# Altium footprint library CAMERA_PcbLib.PcbLib: 27 footprints (part 2 of 2)
Each footprint in its own frame and in the unit in brackets; x right, y up, seen from the top. Pads: shape width x height; smd on the part's side, far side on the other; paste and mask are expansions set on the pad; w line width, h text height; cw(c..) or ccw(c..) is an arc to the next point about the centre after c.
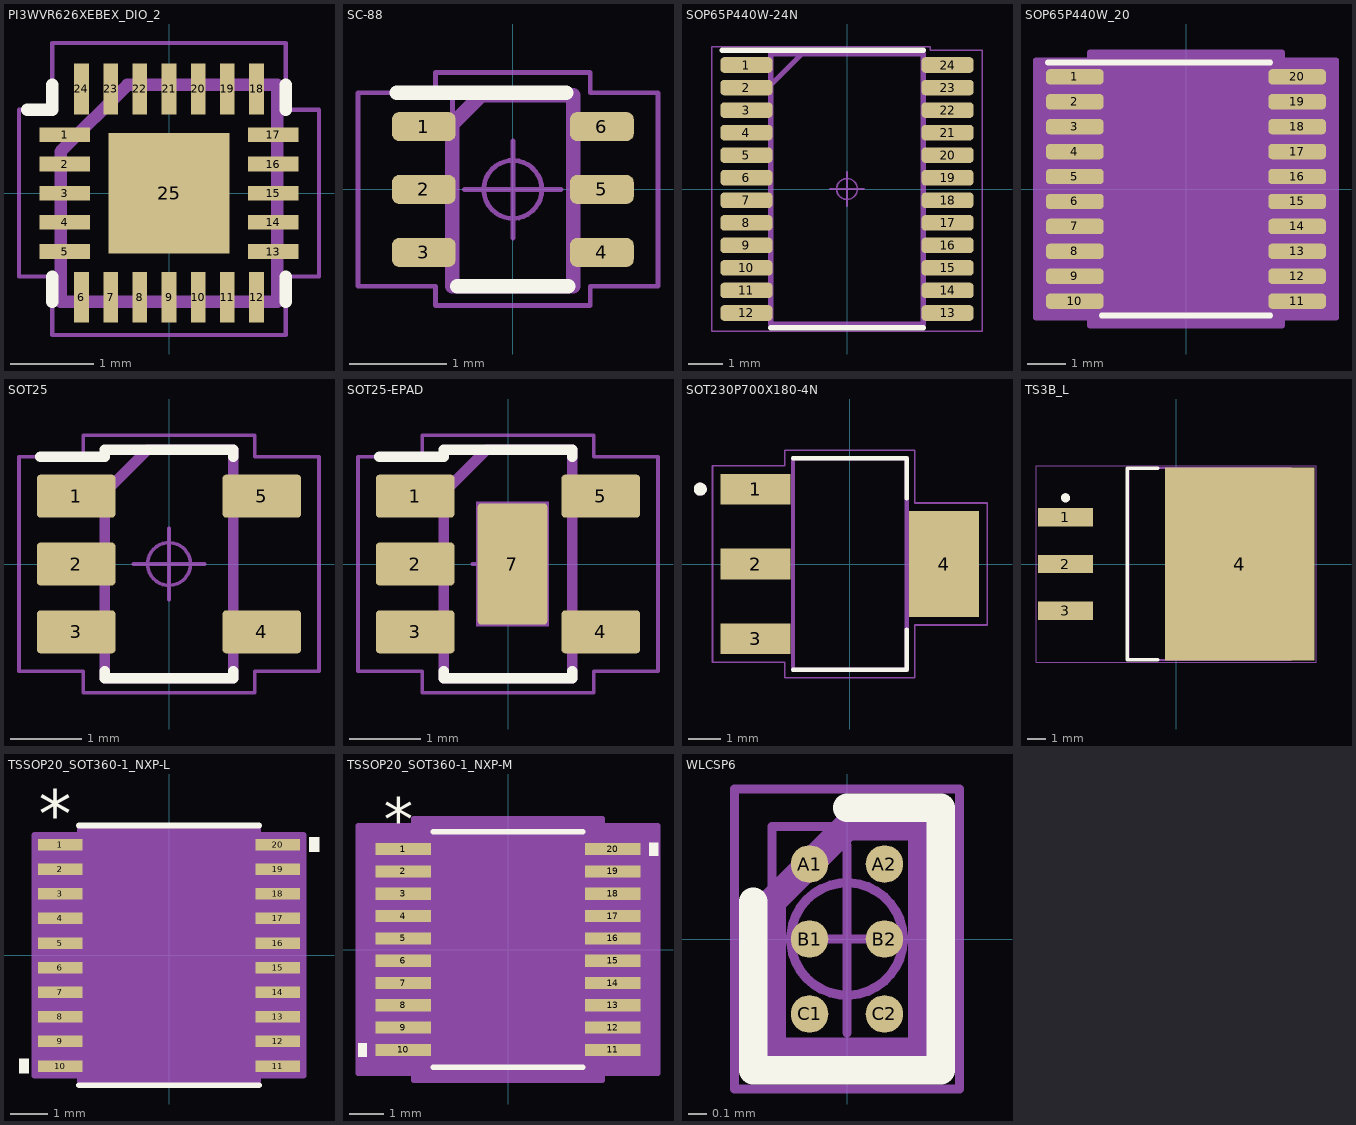
[diagram p1: the footprints below, top view; thin cyan lines are the x and y axes]

## PI3WVR626XEBEX_DIO_2 [mil]
pads (25):
  rect 24x7 smd paste+0 mask+0: 1(-49.21,27.56) 2(-49.21,13.78) 3(-49.21,0) 4(-49.21,-13.78) 5(-49.21,-27.56) 13(49.21,-27.56) 14(49.21,-13.78) 15(49.21,0) 16(49.21,13.78) 17(49.21,27.56)
  rect 7x24 smd paste+0 mask+0: 6(-41.34,-49.21) 7(-27.56,-49.21) 8(-13.78,-49.21) 9(0,-49.21) 10(13.78,-49.21) 11(27.56,-49.21) 12(41.34,-49.21) 18(41.34,49.21) 19(27.56,49.21) 20(13.78,49.21) 21(0,49.21) 22(-13.78,49.21) 23(-27.56,49.21) 24(-41.34,49.21)
  rect 57x57 smd paste+0 mask+0: 25(0,0)
Top Overlay:
  lines w5.91: -66.93,39.37 -55.12,39.37 -55.12,51.18 ; -55.12,-51.18 -55.12,-39.37 ; 55.12,-51.18 55.12,-39.37 ; 55.12,39.37 55.12,51.18
Top Courtyard:
  lines w1.97: -62.99,39.37 -55.12,39.37 -55.12,70.87 55.12,70.87 55.12,39.37 70.87,39.37 70.87,-39.37 55.12,-39.37 55.12,-66.93 -55.12,-66.93 -55.12,-39.37 -70.87,-39.37 -70.87,39.37 -59.06,39.37
Top Assembly:
  lines w5.91: -51.18,-51.18 -51.18,19.68 -19.68,51.18 51.18,51.18 51.18,-51.18 -51.18,-51.18
  text "'.Designator'" at -166.01,-26.12 h62.99
Top Component Center:
  circle w1.97: c0,0 r11.81
  lines w1.97: -19.68,0 19.68,0 ; 0,-19.68 0,19.68
3D body "PI3WVR626XEBEX_DIO.step": height 20.12, standoff 0, extent -49.21,-49.21 49.21,49.21

## SC-88 [mm] "6-TSSOP, SC-88, SOT-363 / SC-88/SC70-6/SOT-363"
pads (6):
  rrect50% 0.66x0.3 smd: 1(-0.92,0.65) 2(-0.92,0) 3(-0.92,-0.65) 4(0.92,-0.65) 5(0.92,0) 6(0.92,0.65)
Top Overlay:
  lines w0.15: -1.2,1 -1.05,1 0.55,1 ; -0.575,-1 0.575,-1
Top Courtyard:
  lines w0.05: -1.6,-1 -1.6,1 -0.8,1 -0.8,1.21 0.8,1.21 0.8,1 1.5,1 1.5,-1 0.8,-1 0.8,-1.2 -0.8,-1.2 -0.8,-1 -1.6,-1
Bottom 3D Body:
  text "'.Designator'" at -4.433,-0.827 h1.6
Top Component Outline:
  lines w0.05: -0.625,-1 -0.625,1 0.625,1 0.625,-1 -0.625,-1
Top Assembly:
  lines w0.15: -0.625,-1 -0.625,0.675 -0.325,0.975 -0.3,0.975 0.625,0.975 0.625,-1 -0.625,-1
  text "'.Designator'" at -4.433,-0.827 h1.6
Top Component Center:
  circle w0.05: c0,0 r0.3
  lines w0.05: -0.5,0 0.5,0 ; 0,-0.5 0,0.5
3D body "BC847BDW1T1G.step": height 1.1, standoff 0, extent -1.05,-1 1.05,1

## SOP65P440W-24N [mm] "TSSOP-24 4.40mm Width"
pads (24):
  rrect50% 1.5x0.45 smd: 1(-2.9,3.575) 2(-2.9,2.925) 3(-2.9,2.275) 4(-2.9,1.625) 5(-2.9,0.975) 6(-2.9,0.325) 7(-2.9,-0.325) 8(-2.9,-0.975) 9(-2.9,-1.625) 10(-2.9,-2.275) 11(-2.9,-2.925) 12(-2.9,-3.575) 13(2.9,-3.575) 14(2.9,-2.925) 15(2.9,-2.275) 16(2.9,-1.625) 17(2.9,-0.975) 18(2.9,-0.325) 19(2.9,0.325) 20(2.9,0.975) 21(2.9,1.625) 22(2.9,2.275) 23(2.9,2.925) 24(2.9,3.575)
Top Overlay:
  lines w0.15: -3.6,4 2.2,4 ; -2.2,-4 2.2,-4
Top Courtyard:
  lines w0.05: -3.9,-4.1 -2.3,-4.1 2.4,-4.1 3.9,-4.1 3.9,4 2.4,4 2.4,4.1 -2.4,4.1 -3.6,4.1 -3.9,4.1 -3.9,-4.1
Top Component Outline:
  lines w0.15: -2.2,-3.9 -2.2,3.9 2.2,3.9 2.2,-3.9 -2.2,-3.9
Top Assembly:
  lines w0.15: -2.2,-3.9 -2.2,3 -2.1,3.1 -1.3,3.9 2.2,3.9 2.2,-3.9 -2.2,-3.9
  text "'.Designator'" at -4.433,-0.827 h1.6
Top Component Center:
  circle w0.05: c0,0 r0.3
  lines w0.05: -0.5,0 0.5,0 ; 0,-0.5 0,0.5
3D body "TCA6416APWR.step": height 1.2, standoff 0, extent -3.2,-3.9 3.2,3.9

## SOP65P440W_20 [mm] "TSSOP 20 4.40mm Width"
pads (20):
  rrect50% 1.5x0.4 smd paste+0 mask+0: 1(-2.9,2.925) 2(-2.9,2.275) 3(-2.9,1.625) 4(-2.9,0.975) 5(-2.9,0.325) 6(-2.9,-0.325) 7(-2.9,-0.975) 8(-2.9,-1.625) 9(-2.9,-2.275) 10(-2.9,-2.925) 11(2.9,-2.925) 12(2.9,-2.275) 13(2.9,-1.625) 14(2.9,-0.975) 15(2.9,-0.325) 16(2.9,0.325) 17(2.9,0.975) 18(2.9,1.625) 19(2.9,2.275) 20(2.9,2.925)
Top Overlay:
  lines w0.15: -3.6,3.3 2.2,3.3 ; -2.2,-3.3 2.2,-3.3
Top Courtyard:
  lines w0.05: -3.9,-3.4 -3.9,3.4 3.9,3.4 3.9,-3.4 -3.9,-3.4
Top Component Outline:
  lines w0: -0.305,3.302 ccw(c0,3.302) 0.305,3.302
  lines w0.025: -3.302,-3.077 -3.302,-2.773 -2.248,-2.773 -2.248,-3.077 -3.302,-3.077 ; -3.302,-2.427 -3.302,-2.123 -2.248,-2.123 -2.248,-2.427 -3.302,-2.427 ; -3.302,-1.777 -3.302,-1.473 -2.248,-1.473 -2.248,-1.777 -3.302,-1.777 ; -3.302,-1.127 -3.302,-0.823 -2.248,-0.823 -2.248,-1.127 -3.302,-1.127 ; -3.302,-0.477 -2.248,-0.477 -2.248,-0.173 -3.302,-0.173 -3.302,-0.477 ; -3.302,0.173 -2.248,0.173 -2.248,0.477 -3.302,0.477 -3.302,0.173 ; -3.302,0.823 -2.248,0.823 -2.248,1.127 -3.302,1.127 -3.302,0.823 ; -3.302,1.473 -2.248,1.473 -2.248,1.777 -3.302,1.777 -3.302,1.473 ; -3.302,2.123 -2.248,2.123 -2.248,2.427 -3.302,2.427 -3.302,2.123 ; -3.302,2.773 -2.248,2.773 -2.248,3.077 -3.302,3.077 -3.302,2.773 ; -2.248,-3.302 -2.248,3.302 2.248,3.302 2.248,-3.302 -2.248,-3.302 ; 2.248,-3.077 2.248,-2.773 3.302,-2.773 3.302,-3.077 2.248,-3.077 ; 2.248,-2.427 2.248,-2.123 3.302,-2.123 3.302,-2.427 2.248,-2.427 ; 2.248,-1.777 2.248,-1.473 3.302,-1.473 3.302,-1.777 2.248,-1.777 ; 2.248,-1.127 2.248,-0.823 3.302,-0.823 3.302,-1.127 2.248,-1.127 ; 2.248,-0.477 3.302,-0.477 3.302,-0.173 2.248,-0.173 2.248,-0.477 ; 2.248,0.173 3.302,0.173 3.302,0.477 2.248,0.477 2.248,0.173 ; 2.248,0.823 3.302,0.823 3.302,1.127 2.248,1.127 2.248,0.823 ; 2.248,1.473 3.302,1.473 3.302,1.777 2.248,1.777 2.248,1.473 ; 2.248,2.123 3.302,2.123 3.302,2.427 2.248,2.427 2.248,2.123 ; 2.248,2.773 3.302,2.773 3.302,3.077 2.248,3.077 2.248,2.773
  text "*" at -2.184,1.956 h1.27
Top Assembly:
  lines w0.15: -2.2,-3.3 2.2,-3.3 2.2,3.3 -1.4,3.3 -2.2,2.5 -2.2,-3.3
  text "'.Designator'" at -4.433,-0.827 h1.6
Mechanical 15:
  region: -2.502,-3.357 -3.912,-3.357 -3.912,3.357 -2.502,3.357 -2.502,3.556 2.502,3.556 2.502,3.357 3.912,3.357 3.912,-3.357 2.502,-3.357 2.502,-3.556 -2.502,-3.556
  lines w0.152: -3.912,-3.357 -3.912,3.357 -2.502,3.357 -2.502,3.556 2.502,3.556 2.502,3.357 3.912,3.357 3.912,-3.357 2.502,-3.357 2.502,-3.556 -2.502,-3.556 -2.502,-3.357 -3.912,-3.357
Top Component Center:
  circle w0.05: c0,0 r0.3
  lines w0.05: -0.5,0 0.5,0 ; 0,-0.5 0,0.5
3D body "TSSOP20_SOT360-1_NXP.step": height 1.09, standoff 0, extent -3.302,-3.302 3.302,3.302

## SOT25 [mm]
pads (5):
  rrect16% 1.1x0.6 smd paste+0 mask+0: 1(-1.3,0.95) 2(-1.3,0) 3(-1.3,-0.95) 4(1.3,-0.95) 5(1.3,0.95)
Top Overlay:
  lines w0.15: -1.8,1.5 -0.9,1.5 -0.9,1.6 0.9,1.6 0.9,1.5 ; -0.9,-1.5 -0.9,-1.6 0.9,-1.6 0.9,-1.5
Top Courtyard:
  lines w0.05: -2.1,-1.5 -1.2,-1.5 -1.2,-1.8 1.2,-1.8 1.2,-1.5 2.1,-1.5 2.1,1.5 1.2,1.5 1.2,1.7 1.2,1.8 -1.1,1.8 -1.2,1.8 -1.2,1.5 -2.1,1.5 -2.1,-1.5
Top Component Outline:
  rectangle: -1.5,0.7 -0.9,1.2
  region: 1.5,1.2 0.9,1.2 0.9,0.7 1.5,0.7
  region: 1.5,-0.7 0.9,-0.7 0.9,-1.2 1.5,-1.2
  rectangle: -1.5,-1.2 -0.9,-0.7
  rectangle: -1.5,-0.25 -0.9,0.25
Top Assembly:
  lines w0.15: -0.9,-1.6 -0.9,1 -0.3,1.6 0.9,1.6 0.9,-1.6 -0.9,-1.6
  text "'.Designator'" at 0.663,-4.217 h1.6
Top Component Center:
  circle w0.05: c0,0 r0.3
  lines w0.05: -0.5,0 0.5,0 ; 0,-0.5 0,0.5
3D body "AP7366-W5-7.step": height 1.4, standoff 0, extent -1.425,-1.5 1.425,1.5

## SOT25-EPAD [mm]
pads (6):
  rrect16% 1.1x0.6 smd paste+0 mask+0: 1(-1.3,0.95) 2(-1.3,0) 3(-1.3,-0.95) 4(1.3,-0.95) 5(1.3,0.95)
  rrect10% 0.975x1.7 smd paste+0 mask+0: 7(0.062,0)
Top Overlay:
  lines w0.15: -1.8,1.5 -0.9,1.5 -0.9,1.6 0.9,1.6 0.9,1.5 ; -0.9,-1.5 -0.9,-1.6 0.9,-1.6 0.9,-1.5
Top Courtyard:
  lines w0.05: -2.1,-1.5 -1.2,-1.5 -1.2,-1.8 1.2,-1.8 1.2,-1.5 2.1,-1.5 2.1,1.5 1.2,1.5 1.2,1.7 1.2,1.8 -1.1,1.8 -1.2,1.8 -1.2,1.5 -2.1,1.5 -2.1,-1.5
Top Component Outline:
  rectangle: -1.5,0.7 -0.9,1.2
  region: 1.5,1.2 0.9,1.2 0.9,0.7 1.5,0.7
  region: 1.5,-0.7 0.9,-0.7 0.9,-1.2 1.5,-1.2
  rectangle: -1.5,-1.2 -0.9,-0.7
  rectangle: -1.5,-0.25 -0.9,0.25
  rectangle: -0.45,-0.875 0.575,0.875
Top Assembly:
  lines w0.15: -0.9,-1.6 -0.9,1 -0.3,1.6 0.9,1.6 0.9,-1.6 -0.9,-1.6
  text "'.Designator'" at 0.663,-4.217 h1.6
Top Component Center:
  circle w0.05: c0,0 r0.3
  lines w0.05: -0.5,0 0.5,0 ; 0,-0.5 0,0.5
3D body "AP7366-W5-7.step": height 1.4, standoff 0, extent -1.425,-1.5 1.425,1.5

## SOT230P700X180-4N [mm]
pads (4):
  rect 2.15x0.95 smd: 1(-2.9,2.3) 2(-2.9,0) 3(-2.9,-2.3)
  rect 2.15x3.25 smd: 4(2.9,0)
Top Overlay:
  circle w0.2: c-4.6,2.3 r0.1
  lines w0.127: -1.75,-3.25 1.75,-3.25 1.75,-2.01 ; -1.75,3.25 1.75,3.25 1.75,2.01
Mechanical 13:
  circle w0.2: c-4.6,2.3 r0.1
  lines w0.127: -1.75,-3.25 -1.75,3.25 1.75,3.25 1.75,-3.25 -1.75,-3.25
Mechanical 15:
  lines w0.05: -4.225,-3.025 -4.225,3.025 -2,3.025 -2,3.5 2,3.5 2,1.875 4.225,1.875 4.225,-1.875 2,-1.875 2,-3.5 -2,-3.5 -2,-3.025 -4.225,-3.025
3D body "step_temp.STEP": height 1.8, standoff 0, extent -3.5,-3.25 3.5,3.25

## TS3B_L [mm]
pads (4):
  rect 3x1 smd: 1(-6,2.54) 2(-6,0) 3(-6,-2.54)
  rect 8.1x10.45 smd: 4(3.45,0)
Top Overlay:
  circle w0.25: c-6,3.59 r0.125
  lines w0.2: -1,-5.2 -2.65,-5.2 -2.65,5.2 -1,5.2
Top Assembly:
  lines w0.125: -1,-5.2 -2.6,-5.2 -2.6,5.2 -1,5.2
  text "'.Designator'" at -3.952,-0.622 h1.5
Mechanical 13:
  lines w0.1: -2.65,-5.2 -2.65,5.2 6.24,5.2 6.24,-5.2 -2.65,-5.2
Mechanical 15:
  lines w0.05: -7.6,-5.325 -7.6,5.325 7.6,5.325 7.6,-5.325 -7.6,-5.325
  lines w0.1: -0.5,0 0.5,0 ; 0,-0.5 0,0.5
Top Component Center:
  circle w0.05: c0,0 r0.3
  lines w0.05: -0.5,0 0.5,0 ; 0,-0.5 0,0.5
3D body: height 4.64, standoff 0, extent -2.65,-5.2 6.24,5.2

## TSSOP20_SOT360-1_NXP-L [mil]
pads (20):
  rect 46x12 smd paste+0 mask+0: 1(-113,115.16) 2(-113,89.57) 3(-113,63.98) 4(-113,38.39) 5(-113,12.8) 6(-113,-12.8) 7(-113,-38.39) 8(-113,-63.98) 9(-113,-89.57) 10(-113,-115.16) 11(113,-115.16) 12(113,-89.57) 13(113,-63.98) 14(113,-38.39) 15(113,-12.8) 16(113,12.8) 17(113,38.39) 18(113,63.98) 19(113,89.57) 20(113,115.16)
Top Overlay:
  region: -146,-107.66 -156,-107.66 -156,-122.66 -146,-122.66
  region: 146,122.66 156,122.66 156,107.66 146,107.66
  lines w6: -93.5,-135 93.5,-135 ; -93.5,135 93.5,135
  text "*" at -135.5,122.16 h50
Mechanical 13:
  lines w0: -12,130 ccw(c0,130) 12,130
  lines w1: -130,-121.16 -130,-109.16 -88.5,-109.16 -88.5,-121.16 -130,-121.16 ; -130,-95.57 -130,-83.57 -88.5,-83.57 -88.5,-95.57 -130,-95.57 ; -130,-69.98 -130,-57.98 -88.5,-57.98 -88.5,-69.98 -130,-69.98 ; -130,-44.39 -130,-32.39 -88.5,-32.39 -88.5,-44.39 -130,-44.39 ; -130,-18.8 -130,-6.8 -88.5,-6.8 -88.5,-18.8 -130,-18.8 ; -130,6.8 -130,18.8 -88.5,18.8 -88.5,6.8 -130,6.8 ; -130,32.39 -130,44.39 -88.5,44.39 -88.5,32.39 -130,32.39 ; -130,57.98 -130,69.98 -88.5,69.98 -88.5,57.98 -130,57.98 ; -130,83.57 -130,95.57 -88.5,95.57 -88.5,83.57 -130,83.57 ; -130,109.16 -130,121.16 -88.5,121.16 -88.5,109.16 -130,109.16 ; -88.5,-130 88.5,-130 88.5,130 -88.5,130 -88.5,-130 ; 88.5,-121.16 88.5,-109.16 130,-109.16 130,-121.16 88.5,-121.16 ; 88.5,-95.57 88.5,-83.57 130,-83.57 130,-95.57 88.5,-95.57 ; 88.5,-69.98 88.5,-57.98 130,-57.98 130,-69.98 88.5,-69.98 ; 88.5,-44.39 88.5,-32.39 130,-32.39 130,-44.39 88.5,-44.39 ; 88.5,-18.8 88.5,-6.8 130,-6.8 130,-18.8 88.5,-18.8 ; 88.5,6.8 88.5,18.8 130,18.8 130,6.8 88.5,6.8 ; 88.5,32.39 88.5,44.39 130,44.39 130,32.39 88.5,32.39 ; 88.5,57.98 88.5,69.98 130,69.98 130,57.98 88.5,57.98 ; 88.5,83.57 88.5,95.57 130,95.57 130,83.57 88.5,83.57 ; 88.5,109.16 88.5,121.16 130,121.16 130,109.16 88.5,109.16
  text "*" at -86,77 h50
Mechanical 15:
  region: -92.5,-125.16 -140,-125.16 -140,125.16 -92.5,125.16 -92.5,134 92.5,134 92.5,125.16 140,125.16 140,-125.16 92.5,-125.16 92.5,-134 -92.5,-134
  lines w6: -140,-125.16 -140,125.16 -92.5,125.16 -92.5,134 92.5,134 92.5,125.16 140,125.16 140,-125.16 92.5,-125.16 92.5,-134 -92.5,-134 -92.5,-125.16 -140,-125.16
3D body "TSSOP20_SOT360-1_NXP.step": height 43.11, standoff 0, extent -130,-130 130,130

## TSSOP20_SOT360-1_NXP-M [mil]
pads (20):
  rect 63.5x14 smd paste+0 mask+0: 1(-120.25,115.16) 2(-120.25,89.57) 3(-120.25,63.98) 4(-120.25,38.39) 5(-120.25,12.8) 6(-120.25,-12.8) 7(-120.25,-38.39) 8(-120.25,-63.98) 9(-120.25,-89.57) 10(-120.25,-115.16) 11(120.25,-115.16) 12(120.25,-89.57) 13(120.25,-63.98) 14(120.25,-38.39) 15(120.25,-12.8) 16(120.25,12.8) 17(120.25,38.39) 18(120.25,63.98) 19(120.25,89.57) 20(120.25,115.16)
Top Overlay:
  region: -162,-107.66 -172,-107.66 -172,-122.66 -162,-122.66
  region: 162,122.66 172,122.66 172,107.66 162,107.66
  lines w6: -85.92,-135 85.92,-135 ; -85.92,135 85.92,135
  text "*" at -142.75,124.16 h50
Mechanical 13:
  lines w0: -12,130 ccw(c0,130) 12,130
  lines w1: -130,-121.16 -130,-109.16 -88.5,-109.16 -88.5,-121.16 -130,-121.16 ; -130,-95.57 -130,-83.57 -88.5,-83.57 -88.5,-95.57 -130,-95.57 ; -130,-69.98 -130,-57.98 -88.5,-57.98 -88.5,-69.98 -130,-69.98 ; -130,-44.39 -130,-32.39 -88.5,-32.39 -88.5,-44.39 -130,-44.39 ; -130,-18.8 -130,-6.8 -88.5,-6.8 -88.5,-18.8 -130,-18.8 ; -130,6.8 -130,18.8 -88.5,18.8 -88.5,6.8 -130,6.8 ; -130,32.39 -130,44.39 -88.5,44.39 -88.5,32.39 -130,32.39 ; -130,57.98 -130,69.98 -88.5,69.98 -88.5,57.98 -130,57.98 ; -130,83.57 -130,95.57 -88.5,95.57 -88.5,83.57 -130,83.57 ; -130,109.16 -130,121.16 -88.5,121.16 -88.5,109.16 -130,109.16 ; -88.5,-130 88.5,-130 88.5,130 -88.5,130 -88.5,-130 ; 88.5,-121.16 88.5,-109.16 130,-109.16 130,-121.16 88.5,-121.16 ; 88.5,-95.57 88.5,-83.57 130,-83.57 130,-95.57 88.5,-95.57 ; 88.5,-69.98 88.5,-57.98 130,-57.98 130,-69.98 88.5,-69.98 ; 88.5,-44.39 88.5,-32.39 130,-32.39 130,-44.39 88.5,-44.39 ; 88.5,-18.8 88.5,-6.8 130,-6.8 130,-18.8 88.5,-18.8 ; 88.5,6.8 88.5,18.8 130,18.8 130,6.8 88.5,6.8 ; 88.5,32.39 88.5,44.39 130,44.39 130,32.39 88.5,32.39 ; 88.5,57.98 88.5,69.98 130,69.98 130,57.98 88.5,57.98 ; 88.5,83.57 88.5,95.57 130,95.57 130,83.57 88.5,83.57 ; 88.5,109.16 88.5,121.16 130,121.16 130,109.16 88.5,109.16
  text "*" at -86,77 h50
Mechanical 15:
  region: -108.5,-142.16 -172,-142.16 -172,142.16 -108.5,142.16 -108.5,150 108.5,150 108.5,142.16 172,142.16 172,-142.16 108.5,-142.16 108.5,-150 -108.5,-150
  lines w6: -172,-142.16 -172,142.16 -108.5,142.16 -108.5,150 108.5,150 108.5,142.16 172,142.16 172,-142.16 108.5,-142.16 108.5,-150 -108.5,-150 -108.5,-142.16 -172,-142.16
3D body "TSSOP20_SOT360-1_NXP.step": height 43.11, standoff 0, extent -130,-130 130,130

## WLCSP6 [mm]
pads (6):
  round 0.2 smd paste+0 mask+0: A1(-0.2,0.4) A2(0.2,0.4) B1(-0.2,0) B2(0.2,0) C1(-0.2,-0.4) C2(0.2,-0.4)
Top Overlay:
  lines w0.15: -0.5,0.2 -0.5,-0.7 0.5,-0.7 0.5,0.7 0,0.7
Top Courtyard:
  lines w0.05: -0.6,-0.8 -0.6,0.8 0.6,0.8 0.6,-0.8 -0.6,-0.8
Top Component Outline:
  lines w0.05: -0.4,-0.6 0.4,-0.6 0.4,0.6 -0.4,0.6 -0.4,-0.6
Top Assembly:
  lines w0.15: -0.4,-0.6 -0.4,0.2 0,0.6 0.4,0.6 0.4,-0.6 -0.4,-0.6
  text "'.Designator'" at 0.663,-4.217 h1.6
Top Component Center:
  circle w0.05: c0,0 r0.3
  lines w0.05: -0.5,0 0.5,0 ; 0,-0.5 0,0.5